# EAGLE library part EWV (library Panasonic-Trimmer_Potentiometers)
44/25 mm Center Space Rotary Potentiometers
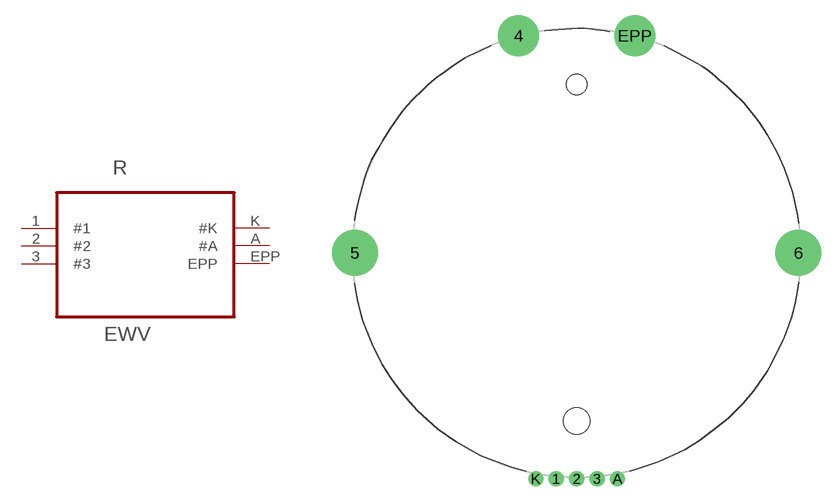
[diagram p2: symbol with the pads of POT_EWVYG; footprint POT_EWVYG]

Designator prefix R

## EWVYG8U03B14 (MPN: EWVYG8U03B14; OC_FARNELL: 2282489; OC_NEWARK: 52W2739; PACKAGE: TH-Rotary Potentiometer; SUPPLIER: PANASONIC; VALUE: 10KOHM, 100mW), EWVYG9U04B14 (MPN: EWVYG9U04B14; OC_FARNELL: 2282490; OC_NEWARK: 52W2740; PACKAGE: TH-Rotary Potentiometer; SUPPLIER: PANASONIC; VALUE: 10KOHM, 100mW), EWVYJXL27B14 (MPN: EWVYJXL27B14; OC_FARNELL: 2282491; OC_NEWARK: 52W2741; PACKAGE: TH-Rotary Potentiometer; SUPPLIER: PANASONIC; VALUE: 10KOHM, 100mW)  [POT_EWVYG]
1  #1  pas
2  #2  pas
3  #3  pas
A  #A  pas
EPP  EPP  pas
K  #K  pas

## Footprint POT_EWVYG (pad centres in mm)
drill 0.8 pad 1.5: 1 -2,-22.15; 2 0,-22.15; 3 2,-22.15; A 4,-22.15; K -4,-22.15
drill 2 pad 4: 4 -5.7,21.3; EPP 5.7,21.3
drill 2.7 pad 4.5: 5 -21.75,0; 6 21.75,0
hole 2.6 at 0,-16.5
hole 2 at 0,16.5